# Altium schematic symbol library LTC4359CMS8PBF.SchLib: 1 symbol
Pins are listed as number, name and electrical type; pins without a type are passive.

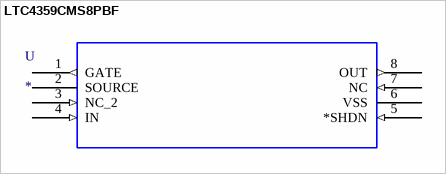
[diagram p0: symbol LTC4359CMS8PBF]

## LTC4359CMS8PBF
designator U
OR Controller N+1 ORing Controller N-Channel N:1 8-MSOP; MF: Linear Technology; MP: LTC4359CMS8#PBF; Package: MSOP-8 Linear Technology; SnapEDA_Link: https://www.snapeda.com/parts/LTC4359CMS8%23PBF/Analog%20Devices/view-part/448959/?ref=snap; Mouser-Purchase-URL: https://snapeda.com/shop?store=Mouser&id=448959; DigiKey-Purchase-URL: https://snapeda.com/shop?store=DigiKey&id=448959; Price: None; Availability: Unavailable; Value: *
footprint MSOP-8_MS
pins: 1 GATE (out), 2 SOURCE, 3 NC_2 (in), 4 IN (in), 5 *SHDN (in), 6 VSS (power), 7 NC (in), 8 OUT (out)